# Altium footprint library Flyback_PcbLib.PcbLib: 23 footprints (part 2 of 2)
Each footprint in its own frame and in the unit in brackets; x right, y up, seen from the top. Pads: shape width x height; smd on the part's side, far side on the other; paste and mask are expansions set on the pad; w line width, h text height; cw(c..) or ccw(c..) is an arc to the next point about the centre after c.
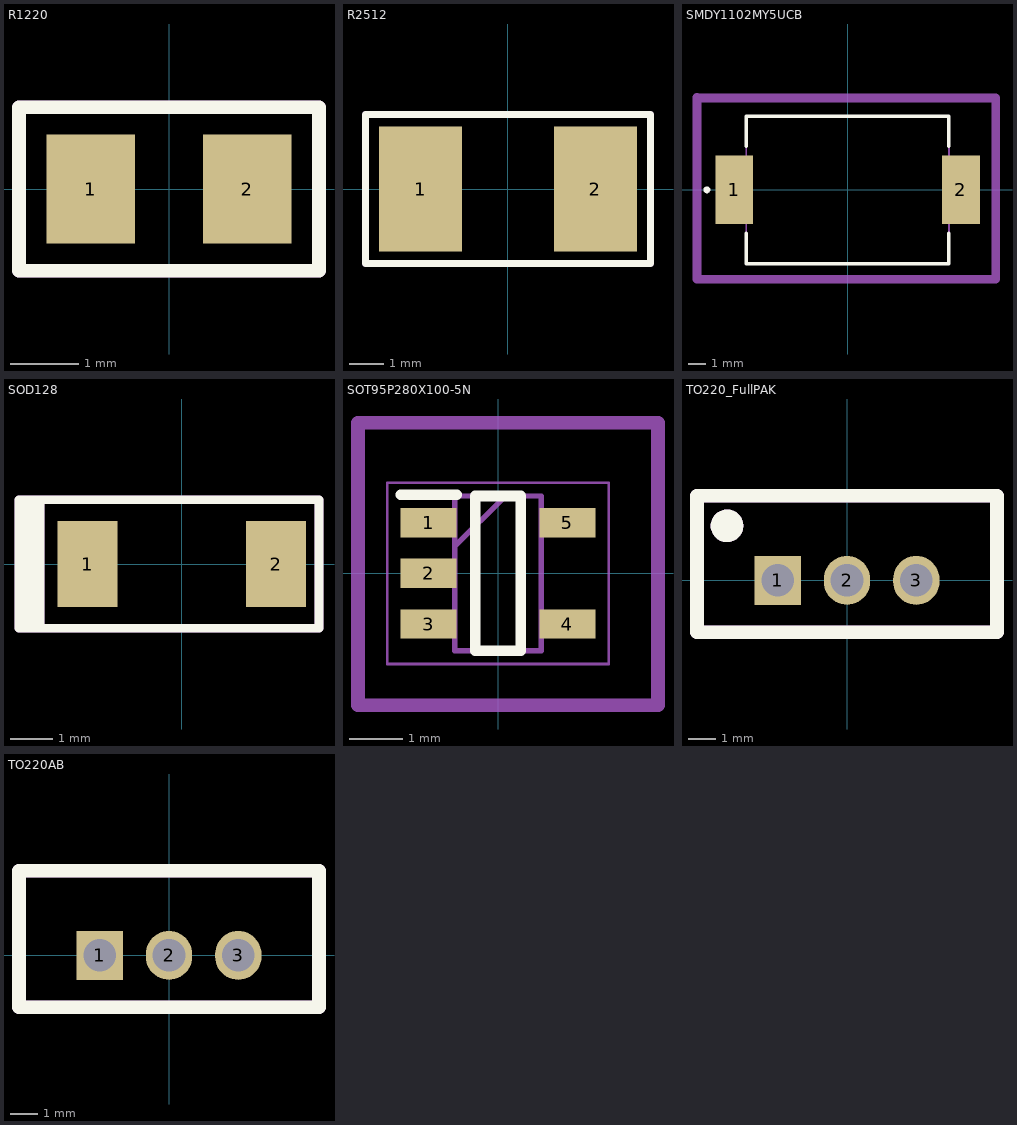
[diagram p1: the footprints below, top view; thin cyan lines are the x and y axes]

## R1220 [mm]
pads (2):
  rect 1.3x1.6 smd: 1(-1.15,0) 2(1.15,0)
Top Overlay:
  lines w0.2: -2.2,-1.2 -2.2,1.2 2.2,1.2 2.2,-1.2 -2.2,-1.2
Mechanical 29 (Mech29):
  lines w0.2: -2.2,-1.2 -2.2,1.2 2.2,1.2 2.2,-1.2 -2.2,-1.2
  text "'.Designator'" at -1.9,-1 h0.7
3D body "RES_1220_SUS.step": height 0.7, standoff 0, extent -1.1,-0.725 1.1,0.725

## R2512 [mm]
pads (2):
  rect 2.45x3.7 smd: 1(-2.575,0) 2(2.575,0)
Top Overlay:
  lines w0.2: -4.2,-2.2 4.2,-2.2 ; -4.2,-2.2 -4.2,2.2 ; -4.2,-2.2 4.2,-2.2 ; -4.2,-2.2 -4.2,2.2 ; -4.2,2.2 4.2,2.2 ; -4.2,2.2 4.2,2.2 ; 4.2,-2.2 4.2,2.2 ; 4.2,-2.2 4.2,2.2
Mechanical 29 (Mech29):
  lines w0.2: -4.2,-2.2 4.2,-2.2 ; -4.2,-2.2 -4.2,2.2 ; -4.2,-2.2 4.2,-2.2 ; -4.2,-2.2 -4.2,2.2 ; -4.2,2.2 4.2,2.2 ; -4.2,2.2 4.2,2.2 ; 4.2,-2.2 4.2,2.2 ; 4.2,-2.2 4.2,2.2
  text "'.Designator'" at -3.8,0.6 h0.7
3D body "70408497.stp": height 0.61, standoff 0.01, extent -3.15,-1.55 3.15,1.55

## SMDY1102MY5UCB [mm]
pads (2):
  rect 2.2x4 smd: 1(-6.6,0) 2(6.6,0)
Top Overlay:
  lines w0.2: -5.9,-2.54 -5.9,-4.3 5.9,-4.3 5.9,-2.54 ; -5.9,2.54 -5.9,4.3 5.9,4.3 5.9,2.54 ; -8.2,-0.1 ccw(c-8.2,0) -8.2,0.1 ccw(c-8.2,0) -8.2,-0.1
Mechanical 13:
  lines w0.1: -5.9,-4.3 -5.9,4.3 5.9,4.3 5.9,-4.3 -5.9,-4.3
Mechanical 15:
  lines w0.1: -8.7,-5.3 -8.7,5.3 8.7,5.3 8.7,-5.3 -8.7,-5.3
Mechanical 29 (Mech29):
  lines w0.5: -8.775,5.4 -8.775,-5.2 8.625,-5.2 8.625,5.35 -8.725,5.35
  text "'.Designator'" at -4.3,2.683 h0.7
3D body "SMDY1152MY5UCR.stp": height 4.12, standoff 0.02, extent -7.4,-4.3 7.4,4.3

## SOD128 [mm]
pads (2):
  rect 1.4x2 smd: 1(-2.2,0) 2(2.2,0)
Top Overlay:
  rectangle: -3.8,-1.5 -3.2,1.5
  lines w0.2: -3.8,-1.5 3.2,-1.5 3.2,1.5 -3.8,1.5 -3.8,-1.5
Mechanical 29 (Mech29):
  rectangle: -3.8,-1.5 -3.2,1.5
  lines w0.2: -3.8,-1.5 3.2,-1.5 3.2,1.5 -3.8,1.5 -3.8,-1.5
  text "'.Designator'" at -2.9,-0.1 h0.7
3D body "User Library-SOD128.step": height 1.12, standoff 0.01, extent -2.5,-1.35 2.5,1.35

## SOT95P280X100-5N [mm]
pads (5):
  rect 1.05x0.55 smd: 1(-1.3,0.95) 2(-1.3,0) 3(-1.3,-0.95) 4(1.3,-0.95) 5(1.3,0.95)
Top Overlay:
  lines w0.2: -1.825,1.475 -0.775,1.475 ; -0.425,-1.45 -0.425,1.45 0.425,1.45 0.425,-1.45 -0.425,-1.45
Mechanical 13:
  lines w0.1: -0.812,0.5 0.138,1.45 ; -0.812,-1.45 -0.812,1.45 0.812,1.45 0.812,-1.45 -0.812,-1.45
Mechanical 15:
  lines w0.05: -2.075,-1.7 -2.075,1.7 2.075,1.7 2.075,-1.7 -2.075,-1.7
Mechanical 29 (Mech29):
  lines w0.254: -2.625,2.825 -2.625,-2.475 3,-2.475 3,2.825 -2.225,2.825 -2.6,2.825
  text "'.Designator'" at -2.075,1.733 h0.7
3D body "LT8309ES5#TRMPBF.stp": height 1, standoff 0, extent -1.4,-1.45 1.4,1.45

## TO220_FullPAK [mm]
pads (3):
  rect 1.7x1.8 hole 1.2: 1(-2.54,0)
  oval 1.7x1.8 hole 1.2: 2(0,0) 3(2.54,0)
Top Overlay:
  circle w0.6: c-4.4,2 r0.3
  lines w0.5: -5.5,-1.9 5.5,-1.9 5.5,3.1 -5.5,3.1 -5.5,-1.9
Mechanical 29 (Mech29):
  circle w0.6: c-4.4,2 r0.3
  lines w0.5: -5.5,-1.9 5.5,-1.9 5.5,3.1 -5.5,3.1 -5.5,-1.9
  text "'.Designator'" at -3.3,-1.1 h1
3D body "User Library-Transistors TO-220 FULLPAK 3-PIN.step": height 20.22, standoff -9.25, extent -5.08,-1.683 5.08,3.017

## TO220AB [mm]
pads (3):
  rect 1.7x1.8 hole 1.2: 1(-2.54,0)
  oval 1.7x1.8 hole 1.2: 2(0,0) 3(2.54,0)
Top Overlay:
  lines w0.5: -5.5,-1.9 -5.5,3.1 5.5,3.1 5.5,-1.9 -5.5,-1.9
Mechanical 29 (Mech29):
  lines w0.5: -5.5,-1.9 -5.5,3.1 5.5,3.1 5.5,-1.9 -5.5,-1.9
  text "'.Designator'" at -3.3,-1.1 h1
3D body "stps20h100ct.stp": height 22.62, standoff -8.37, extent -5.335,-1.608 5.335,3.222